# Altium schematic symbol library МЛТ-0,25.SchLib: 1 symbol
Pins are listed as number, name and electrical type; pins without a type are passive.

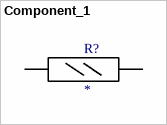
[diagram p0: symbol Component_1]

## Component_1
designator R?
footprint МЛТ-0,25
pins: 0, 1